# Altium integrated library FPGA.IntLib: 1 symbol
Pins are listed as number, name and electrical type; pins without a type are passive.

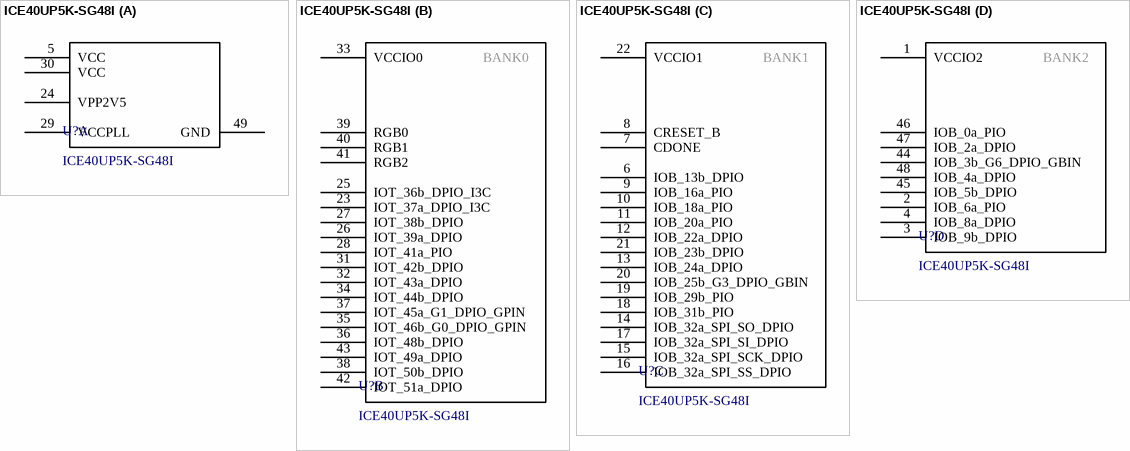
[diagram p0: symbol ICE40UP5K-SG48I]

## ICE40UP5K-SG48I
designator U?
iCE40 UltraPlus™ Field Programmable Gate Array (FPGA) IC 39 1171456 5280 48-VFQFN Exposed Pad; Manufacturer 1: Lattice Semiconductor Corporation; Manufacturer Part Number 1: ICE40UP5K-SG48I; Supplier 1: Digi-Key; Supplier Part Number 1: 220-2212-1-ND
footprint QFN50P700X700X100_HS-49N_T535X535 (QFN, 48-Leads, Body 7.00x7.00mm, Pitch 0.50mm, Thermal Pad 5.35x5.35mm, IPC Medium Density)
part A pins: 5 VCC, 24 VPP2V5, 29 VCCPLL, 30 VCC, 49 GND
part B pins: 23 IOT_37a_DPIO_I3C, 25 IOT_36b_DPIO_I3C, 26 IOT_39a_DPIO, 27 IOT_38b_DPIO, 28 IOT_41a_PIO, 31 IOT_42b_DPIO, 32 IOT_43a_DPIO, 33 VCCIO0, 34 IOT_44b_DPIO, 35 IOT_46b_G0_DPIO_GPIN, 36 IOT_48b_DPIO, 37 IOT_45a_G1_DPIO_GPIN, 38 IOT_50b_DPIO, 39 RGB0, 40 RGB1, 41 RGB2, 42 IOT_51a_DPIO, 43 IOT_49a_DPIO
part C pins: 6 IOB_13b_DPIO, 7 CDONE, 8 CRESET_B, 9 IOB_16a_PIO, 10 IOB_18a_PIO, 11 IOB_20a_PIO, 12 IOB_22a_DPIO, 13 IOB_24a_DPIO, 14 IOB_32a_SPI_SO_DPIO, 15 IOB_32a_SPI_SCK_DPIO, 16 IOB_32a_SPI_SS_DPIO, 17 IOB_32a_SPI_SI_DPIO, 18 IOB_31b_PIO, 19 IOB_29b_PIO, 20 IOB_25b_G3_DPIO_GBIN, 21 IOB_23b_DPIO, 22 VCCIO1
part D pins: 1 VCCIO2, 2 IOB_6a_PIO, 3 IOB_9b_DPIO, 4 IOB_8a_DPIO, 44 IOB_3b_G6_DPIO_GBIN, 45 IOB_5b_DPIO, 46 IOB_0a_PIO, 47 IOB_2a_DPIO, 48 IOB_4a_DPIO
part B text: BANK0
part C text: BANK1
part D text: BANK2